# EAGLE library part LCD-HD44780 (library HD44780LCD)
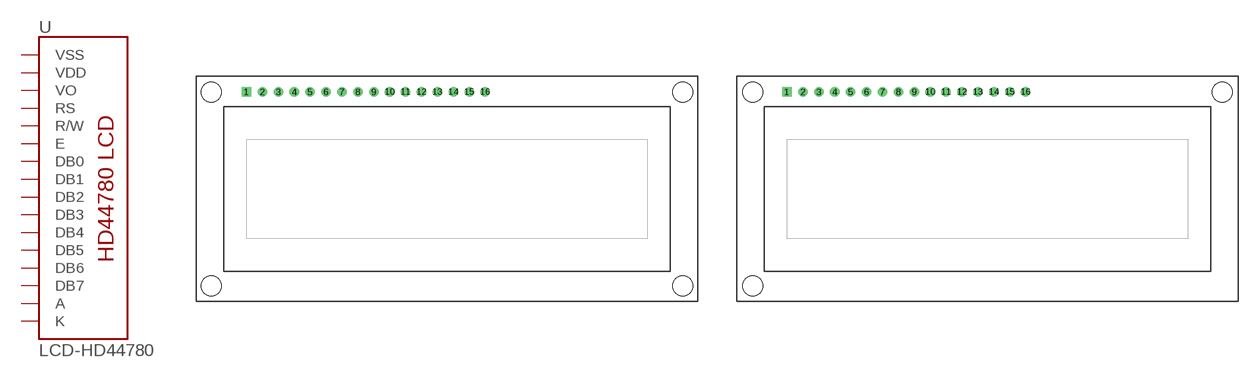
[diagram p0: symbol with the pads of LCD-16X2-4HOLES; footprints LCD-16X2-4HOLES, LCD-16X2-3HOLES]

Designator prefix -

## LCD-HD447804-HOLES16X2-4-HOLES  [LCD-16X2-4HOLES]
1  VSS  pwr
2  VDD  pwr
3  VO
4  RS  in
5  R/W  in
6  E  in
7  DB0
8  DB1
9  DB2
10  DB3
11  DB4
12  DB5
13  DB6
14  DB7
15  A  pwr
16  K  pwr

## LCD-HD447803-HOLES16X2-3-HOLES  [LCD-16X2-3HOLES]
Pads as for LCD-16X2-4HOLES

## LCD-HD447804-HOLES20X4-4HOLES  [LCD-20X4-4HOLES]
P$1  VSS  pwr
P$2  VDD  pwr
P$3  VO
P$4  RS  in
P$5  R/W  in
P$6  E  in
P$7  DB0
P$8  DB1
P$9  DB2
P$10  DB3
P$11  DB4
P$12  DB5
P$13  DB6
P$14  DB7
P$15  A  pwr
P$16  K  pwr

## LCD-HD4478020X4-3HOLES  [LCD-20X4-3HOLES]
Pads as for LCD-20X4-4HOLES

## LCD-HD4478016X2-4-HOLES-BL16X2-4-HOLES-BL  [LCD-16X2-4HOLES-BL]
Pads as for LCD-16X2-4HOLES

## LCD-HD44780  [LCD-16X2-PIN]
Pads as for LCD-16X2-4HOLES

## Footprint LCD-16X2-4HOLES (pad centres in mm)
drill 1.016 square: 1 -32,15.5
drill 1.016: 2 -29.46,15.5; 3 -26.92,15.5; 4 -24.38,15.5; 5 -21.84,15.5; 6 -19.3,15.5; 7 -16.76,15.5; 8 -14.22,15.5; 9 -11.68,15.5; 10 -9.14,15.5; 11 -6.6,15.5; 12 -4.06,15.5; 13 -1.52,15.5; 14 1.02,15.5; 15 3.56,15.5; 16 6.1,15.5
hole 3.2 at -37.6,15.5
hole 3.2 at -37.6,-15.5
hole 3.2 at 37.6,-15.5
hole 3.2 at 37.6,15.5

## Footprint LCD-16X2-3HOLES (pad centres in mm)
drill 1.016 square: 1 -32,15.5
drill 1.016: 2 -29.46,15.5; 3 -26.92,15.5; 4 -24.38,15.5; 5 -21.84,15.5; 6 -19.3,15.5; 7 -16.76,15.5; 8 -14.22,15.5; 9 -11.68,15.5; 10 -9.14,15.5; 11 -6.6,15.5; 12 -4.06,15.5; 13 -1.52,15.5; 14 1.02,15.5; 15 3.56,15.5; 16 6.1,15.5
hole 3.2 at -37.5,15.5
hole 3.2 at -37.5,-15.5
hole 3.2 at 37.5,15.5

## Footprint LCD-20X4-4HOLES (pad centres in mm)
drill 1.016 square: P$1 10,57.5
drill 1.016: P$2 12.54,57.5; P$3 15.08,57.5; P$4 17.62,57.5; P$5 20.16,57.5; P$6 22.7,57.5; P$7 25.24,57.5; P$8 27.78,57.5; P$9 30.32,57.5; P$10 32.86,57.5; P$11 35.4,57.5; P$12 37.94,57.5; P$13 40.48,57.5; P$14 43.02,57.5; P$15 45.56,57.5; P$16 48.1,57.5
hole 3.2 at 2.5,2.5
hole 3.2 at 2.5,57.5
hole 3.2 at 95.5,57.5
hole 3.2 at 95.5,2.5

## Footprint LCD-20X4-3HOLES (pad centres in mm)
drill 1.016 square: P$1 10,57.5
drill 1.016: P$2 12.54,57.5; P$3 15.08,57.5; P$4 17.62,57.5; P$5 20.16,57.5; P$6 22.7,57.5; P$7 25.24,57.5; P$8 27.78,57.5; P$9 30.32,57.5; P$10 32.86,57.5; P$11 35.4,57.5; P$12 37.94,57.5; P$13 40.48,57.5; P$14 43.02,57.5; P$15 45.56,57.5; P$16 48.1,57.5
hole 3.2 at 2.5,2.5
hole 3.2 at 2.5,57.5
hole 3.2 at 95.5,57.5

## Footprint LCD-16X2-4HOLES-BL (pad centres in mm)
drill 1.016 square: 1 -32,-15.5
drill 1.016: 2 -29.46,-15.5; 3 -26.92,-15.5; 4 -24.38,-15.5; 5 -21.84,-15.5; 6 -19.3,-15.5; 7 -16.76,-15.5; 8 -14.22,-15.5; 9 -11.68,-15.5; 10 -9.14,-15.5; 11 -6.6,-15.5; 12 -4.06,-15.5; 13 -1.52,-15.5; 14 1.02,-15.5; 15 3.56,-15.5; 16 6.1,-15.5
hole 3.2 at -37.6,15.5
hole 3.2 at -37.6,-15.5
hole 3.2 at 37.6,-15.5
hole 3.2 at 37.6,15.5

## Footprint LCD-16X2-PIN (pad centres in mm)
drill 0.8 square: 1 -19.05,0
drill 0.8: 2 -16.51,0; 3 -13.97,0; 4 -11.43,0; 5 -8.89,0; 6 -6.35,0; 7 -3.81,0; 8 -1.27,0; 9 1.27,0; 10 3.81,0; 11 6.35,0; 12 8.89,0; 13 11.43,0; 14 13.97,0; 15 16.51,0; 16 19.05,0